# Altium footprint library IlamStuff.PcbLib: 17 footprints (part 2 of 2)
Each footprint in its own frame and in the unit in brackets; x right, y up, seen from the top. Pads: shape width x height; smd on the part's side, far side on the other; paste and mask are expansions set on the pad; w line width, h text height; cw(c..) or ccw(c..) is an arc to the next point about the centre after c.
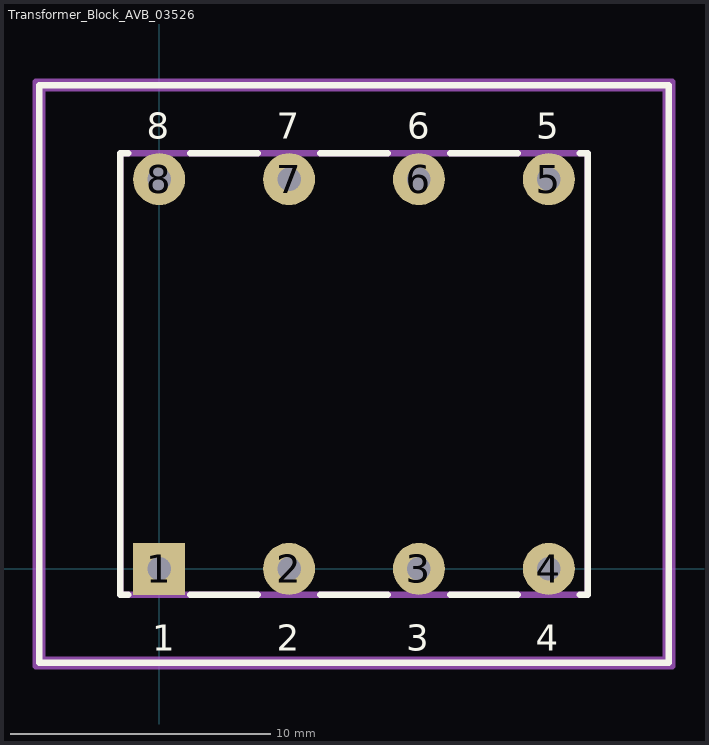
[diagram p1: the footprint, top view; thin cyan lines are the x and y axes]

## Transformer_Block_AVB_03526 [mm]
pads (8):
  rect 2x2 hole 0.9: 1(0,0)
  round 2 hole 0.9: 2(5,0) 3(10,0) 4(15,0) 5(15,15) 6(10,15) 7(5,15) 8(0,15)
F.SilkS:
  lines w0.254: -1.2,-1 -1.5,-1 -1.5,16 -1.2,16 ; 1.2,-1 3.8,-1 ; 1.2,16 3.8,16 ; 6.2,-1 8.8,-1 ; 6.2,16 8.8,16 ; 11.2,-1 13.8,-1 ; 11.2,16 13.8,16 ; 16.2,-1 16.5,-1 16.5,16 16.2,16 ; -4.62,-3.62 -4.62,18.62 19.62,18.62 19.62,-3.62 -4.62,-3.62
  text "5" at 14.517,16.55 h1
  text "2" at 4.517,-3.15 h1
  text "8" at -0.483,16.55 h1
  text "4" at 14.493,-3.15 h1
  text "3" at 9.517,-3.15 h1
  text "1" at -0.269,-3.15 h1
  text "6" at 9.541,16.55 h1
  text "7" at 4.517,16.55 h1
F.CrtYd:
  lines w0.254: -4.75,-3.75 -4.75,18.75 19.75,18.75 19.75,-3.75 -4.75,-3.75
F.Fab:
  lines w0.254: -4.5,-3.5 -4.5,18.5 19.5,18.5 19.5,-3.5 -4.5,-3.5 ; -1.5,-1 -1.5,16 16.5,16 16.5,-1 -1.5,-1
  text "'.Designator'" at 3.453,6.66 h1